# Altium footprint library CornellBajaLibrary.PcbLib: 134 footprints (part 4 of 9)
Each footprint in its own frame and in the unit in brackets; x right, y up, seen from the top. Pads: shape width x height; smd on the part's side, far side on the other; paste and mask are expansions set on the pad; w line width, h text height; cw(c..) or ccw(c..) is an arc to the next point about the centre after c.
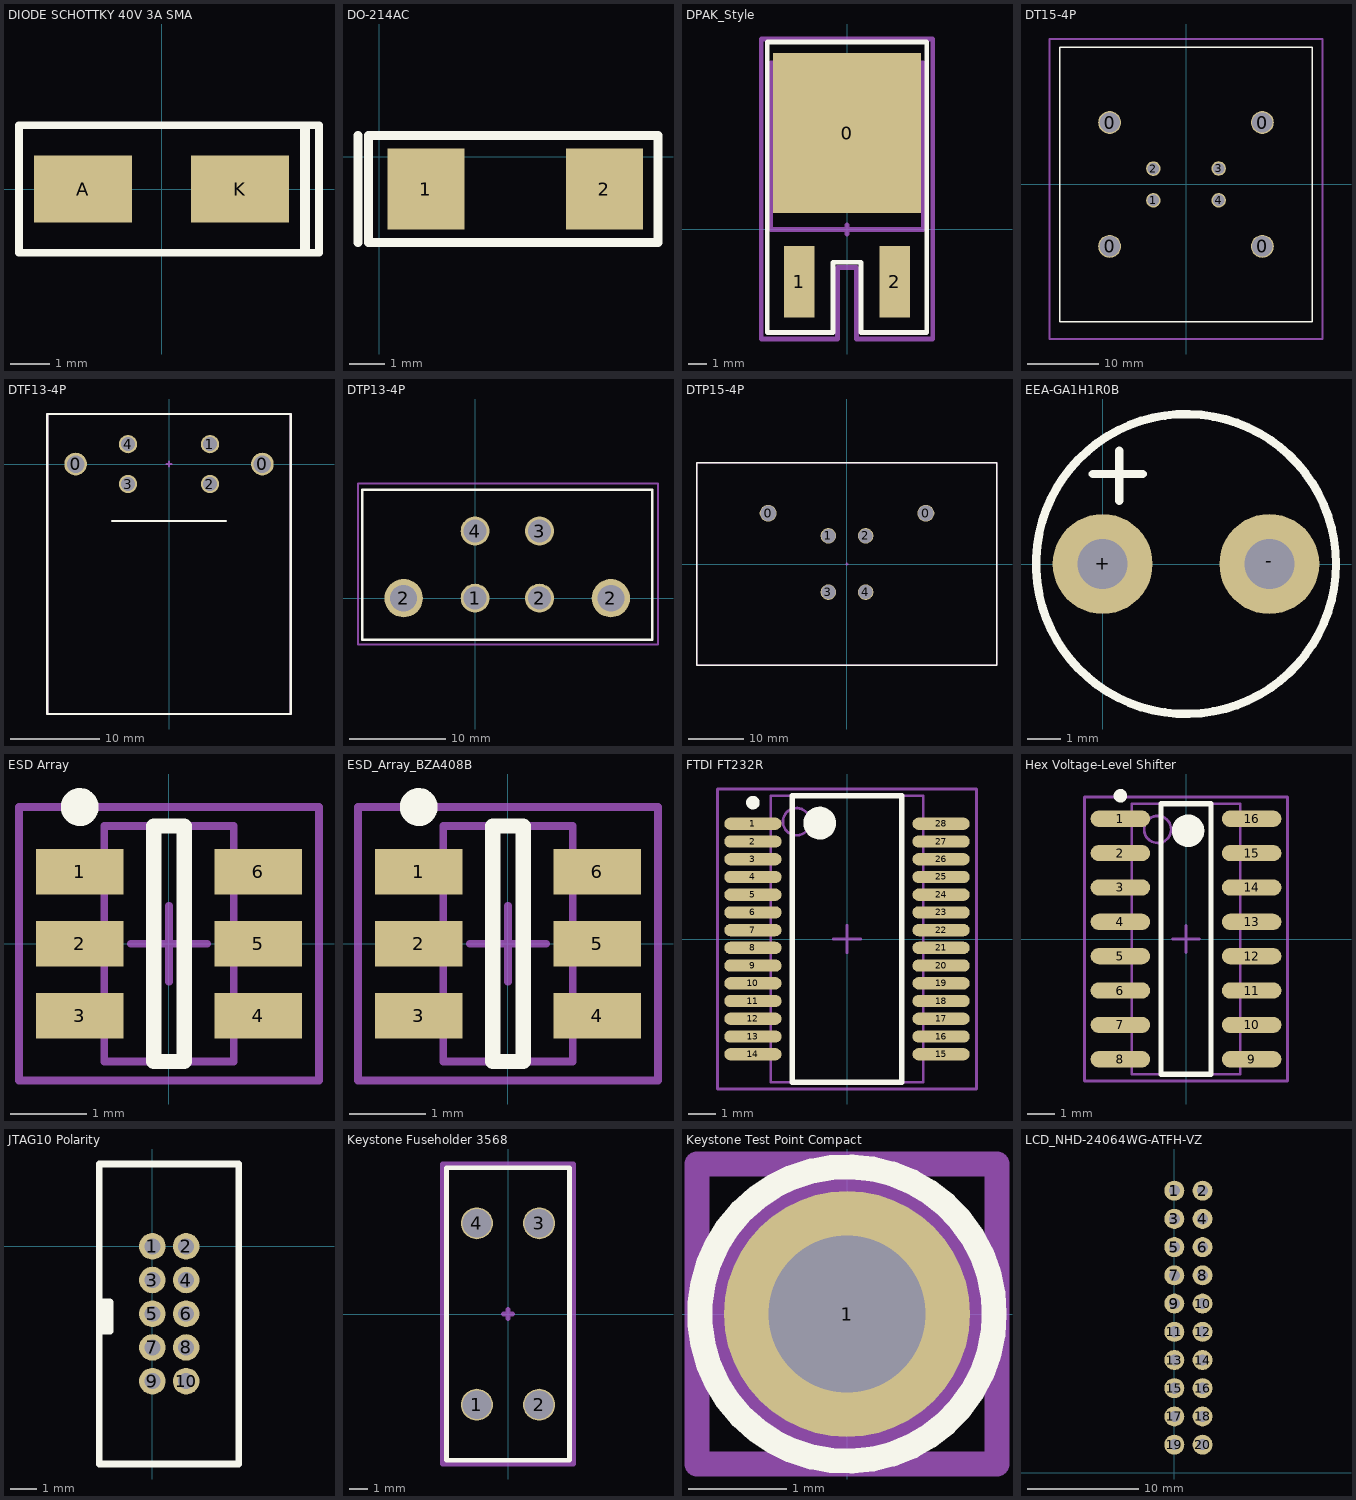
[diagram p3: the footprints below, top view; thin cyan lines are the x and y axes]

## DIODE SCHOTTKY 40V 3A SMA [mm] "DIODE SCHOTTKY 40V 3A SMA"
height 3
pads (2):
  rect 2.5x1.7 smd: A(-2,0) K(2,0)
Top Overlay:
  lines w0.2: -3.632,-1.626 4.013,-1.626 4.013,1.626 -3.632,1.626 -3.632,-1.626
  lines w0.25: 3.658,-1.499 3.658,1.575

## DO-214AC [mm]
pads (2):
  rect 2.16x2.26 smd: 1(1.3,-0.9) 2(6.3,-0.9)
Top Overlay:
  lines w0.25: -0.6,-2.4 -0.6,0.6 ; -0.3,-2.4 -0.3,0.6 7.8,0.6 7.8,-2.4 5.475,-2.4 1.825,-2.4 -0.3,-2.4

## DPAK_Style [mm]
height 2.79
pads (3):
  rect 7.87x8.51 smd: 0(0,5.145)
  rect 1.62x3.81 smd: 1(-2.54,-2.795) 2(2.54,-2.795)
Top Overlay:
  lines w0.254: -4.25,-5.5 -4.25,9.5 -4.25,10 4.25,10 4.25,9.5 4.25,-5.5 0.75,-5.5 0.75,-1.75 0,-1.75 -0.75,-1.75 -0.75,-5.5 -4.25,-5.5
Mechanical 13:
  lines w0.254: -4.064,0 -4.064,8.89 4.064,8.89 4.064,0 0,0 -4.064,0
Mechanical 15:
  lines w0.254: -0.254,0 0.254,0 ; 0,-0.254 0,0.254 ; -4.572,-5.842 -4.572,10.16 4.572,10.16 4.572,-5.842 0.508,-5.842 0.508,-2.032 0,-2.032 -0.508,-2.032 -0.508,-5.842 -4.572,-5.842
3D body: height 2.79, standoff 0, extent -4.063,0.001 4.063,8.889

## DT15-4P [mm]
pads (8):
  round 3.2 hole 2.85: 0(-10.67,-8.65) 0(-10.67,8.65) 0(10.67,-8.65) 0(10.67,8.65)
  round 2.032 hole 1.6: 1(-4.56,-2.23) 2(-4.56,2.22) 3(4.56,2.23) 4(4.56,-2.22)
Top Overlay:
  lines w0.254: -17.625,-19.175 -17.625,19.175 17.625,19.175 17.625,-19.175 -17.625,-19.175
Mechanical 15:
  lines w0.254: -19.05,-21.59 19.05,-21.59 19.05,20.32 -19.05,20.32 -19.05,-21.59
3D body: height 30.35, standoff -3.1, extent -17.628,-20.701 17.628,17.653

## DTF13-4P [mil]
pads (6):
  round 100 hole 77: 0(-410,0) 0(410,0)
  round 80 hole 62: 1(180,87.5) 2(180,-87.5) 3(-180,-87.5) 4(-180,87.5)
Top Overlay:
  lines w10: -250,-250 250,-250 ; -535,-1097.5 535,-1097.5 535,220 -535,220 -535,-1097.5
Mechanical 15:
  lines w10: -10,0 10,0 ; 0,-10 0,10 ; -535,-1097.5 -535,220 535,220 535,-1097.5 -535,-1097.5
3D body: height 921.5, standoff -124.5, extent -535,-1097.5 535,220

## DTP13-4P [mm]
pads (6):
  round 3 hole 2.39: 1(0,0) 2(6.71,0) 3(6.71,6.99) 4(0,6.99)
  round 4 hole 2.79: 2(-7.44,0) 2(14.15,0)
Top Overlay:
  lines w0.254: -11.76,-4.32 -11.76,11.31 18.47,11.31 18.47,-4.32 -11.76,-4.32
Mechanical 15:
  lines w0.254: -12.192,-4.826 19.05,-4.826 19.05,11.938 -12.192,11.938 -12.192,-4.826
3D body: height 40.35, standoff 3.85, extent -11.76,-4.32 18.47,11.31

## DTP15-4P [mil]
pads (6):
  round 120 hole 110: 0(-560,360) 0(560,360)
  round 110 hole 100: 1(-132,200) 2(132,200) 3(-132,-200) 4(132,-200)
Top Overlay:
  lines w10: -1065,-718.5 1065,-718.5 1065,718.5 -1065,718.5 -1065,-718.5
Mechanical 15:
  lines w10: -1060,-718.5 -1065,-718.5 ; -10,0 10,0 ; 0,-10 0,10 ; -1065,-718.5 -1065,718.5 1065,718.5 ; -1065,-718.5 1065,-718.5 1065,718.5 ; 1065,718.51 1065,718.51
3D body: height 1340, standoff -181.92, extent -1064.99,-718.5 1065,718.51

## EEA-GA1H1R0B [mm] "1uF Electrolytic Through Hole"
height 7
pads (2):
  round 3 hole 1.5: +(0,0) -(5,0)
Top Overlay:
  circle w0.254: c2.5,0 r4.5
  lines w0.254: -0.3,2.7 1.2,2.7 ; 0.5,1.9 0.5,3.4

## ESD Array [mm] "BZA408B"
height 1.1
pads (6):
  rect 1.15x0.6 smd: 1(-1.175,0.95) 2(-1.175,0) 3(-1.175,-0.95) 4(1.175,-0.95) 5(1.175,0) 6(1.175,0.95)
Top Overlay:
  circle w0.25: c-1.175,1.8 r0.125
  lines w0.2: -0.2,-1.55 0.2,-1.55 0.2,1.55 -0.2,1.55 -0.2,-1.55
Mechanical 13:
  lines w0.1: -0.85,-1.55 -0.85,1.55 0.85,1.55 0.85,-1.55 -0.85,-1.55
Mechanical 15:
  lines w0.1: -0.5,0 0.5,0 ; 0,-0.5 0,0.5 ; -1.975,-1.8 -1.975,1.8 1.975,1.8 1.975,-1.8 -1.975,-1.8
3D body: height 1.1, standoff 0.01, extent -0.85,-1.55 0.85,1.55

## ESD_Array_BZA408B [mm] "SOT23, 6-Leads, Body 3.1x3.0mm (max), Pitch 0.95mm, IPC Medium Density"
height 1.1
pads (6):
  rect 1.15x0.6 smd: 1(-1.175,0.95) 2(-1.175,0) 3(-1.175,-0.95) 4(1.175,-0.95) 5(1.175,0) 6(1.175,0.95)
Top Overlay:
  circle w0.25: c-1.175,1.8 r0.125
  lines w0.2: -0.2,-1.55 0.2,-1.55 0.2,1.55 -0.2,1.55 -0.2,-1.55
Mechanical 13:
  lines w0.1: -0.85,-1.55 -0.85,1.55 0.85,1.55 0.85,-1.55 -0.85,-1.55
Mechanical 15:
  lines w0.1: -0.5,0 0.5,0 ; 0,-0.5 0,0.5 ; -1.975,-1.8 -1.975,1.8 1.975,1.8 1.975,-1.8 -1.975,-1.8
3D body: height 1.1, standoff 0.01, extent -0.85,-1.55 0.85,1.55

## FTDI FT232R [mm] "SOP, 28-Leads, Body 10.5x5.6mm (max), Pitch 0.65mm, IPC Medium Density"
height 2
pads (28):
  oval 2.1x0.45 smd: 1(-3.45,4.225) 2(-3.45,3.575) 3(-3.45,2.925) 4(-3.45,2.275) 5(-3.45,1.625) 6(-3.45,0.975) 7(-3.45,0.325) 8(-3.45,-0.325) 9(-3.45,-0.975) 10(-3.45,-1.625) 11(-3.45,-2.275) 12(-3.45,-2.925) 13(-3.45,-3.575) 14(-3.45,-4.225) 15(3.45,-4.225) 16(3.45,-3.575) 17(3.45,-2.925) 18(3.45,-2.275) 19(3.45,-1.625) 20(3.45,-0.975) 21(3.45,-0.325) 22(3.45,0.325) 23(3.45,0.975) 24(3.45,1.625) 25(3.45,2.275) 26(3.45,2.925) 27(3.45,3.575) 28(3.45,4.225)
Top Overlay:
  circle w0.25: c-3.45,5 r0.125
  circle w0.6: c-1,4.25 r0.3
  lines w0.2: -2,-5.25 -2,5.25 2,5.25 2,-5.25 -2,-5.25
Mechanical 13:
  circle w0.1: c-1.85,4.3 r0.5
  lines w0.1: -2.8,-5.25 -2.8,5.25 2.8,5.25 2.8,-5.25 -2.8,-5.25
Mechanical 15:
  lines w0.1: -0.5,0 0.5,0 ; 0,-0.5 0,0.5 ; -4.75,-5.5 -4.75,5.5 4.75,5.5 4.75,-5.5 -4.75,-5.5
3D body: height 2, standoff 0.05, extent -2.8,-5.25 2.8,5.25

## Hex Voltage-Level Shifter [mm] "CD4504B"
height 1.75
pads (16):
  oval 2.2x0.6 smd: 1(-2.425,4.445) 2(-2.425,3.175) 3(-2.425,1.905) 4(-2.425,0.635) 5(-2.425,-0.635) 6(-2.425,-1.905) 7(-2.425,-3.175) 8(-2.425,-4.445) 9(2.425,-4.445) 10(2.425,-3.175) 11(2.425,-1.905) 12(2.425,-0.635) 13(2.425,0.635) 14(2.425,1.905) 15(2.425,3.175) 16(2.425,4.445)
Top Overlay:
  circle w0.6: c0.075,4 r0.3
  circle w0.25: c-2.425,5.295 r0.125
  lines w0.2: -0.925,-5 0.925,-5 0.925,5 -0.925,5 -0.925,-5
Mechanical 13:
  circle w0.1: c-1.05,4.05 r0.5
  lines w0.1: -2,-5 2,-5 2,5 -2,5 -2,-5
Mechanical 15:
  lines w0.1: -0.5,0 0.5,0 ; 0,-0.5 0,0.5 ; -3.75,-5.25 3.75,-5.25 3.75,5.25 -3.75,5.25 -3.75,-5.25
3D body: height 1.75, standoff 0.1, extent -2,-5 2,5

## JTAG10 Polarity [mm] "3220-10-0100-00"
height 5.4
pads (10):
  round 1 hole 0.6: 1(0,0) 2(1.27,0) 3(0,-1.27) 4(1.27,-1.27) 5(0,-2.54) 6(1.27,-2.54) 7(0,-3.81) 8(1.27,-3.81) 9(0,-5.08) 10(1.27,-5.08)
Top Overlay:
  lines w0.254: -1.8,-2.2 -1.8,-3.2 -2,-3.2 ; -2,-3.2 -2,-2.1 -1.6,-2.1 -1.6,-3.2 -2,-3.2 ; -2,-8.2 -2,3.1 3.25,3.1 3.25,-8.2 -2,-8.2
3D body: height 5.4, standoff 0.5, extent -2,-8.2 3.25,3.1

## Keystone Fuseholder 3568 [mm]
height 16
pads (4):
  round 1.75 hole 1.57: 1(-1.7,-4.96) 2(1.7,-4.96) 3(1.7,4.96) 4(-1.7,4.96)
Top Overlay:
  lines w0.254: 3.365,-7.874 3.365,-8 ; 3.365,-8 3.365,8 ; 3.365,-8 3.365,8 ; 3.365,-8 -3.365,-8 -3.365,8 3.365,8
Mechanical 13:
  lines w0.254: 3.365,-7.874 3.365,-8 ; 3.365,-8 -3.365,-8 -3.365,8 3.365,8 ; 3.365,-8 3.365,8 ; 3.365,-8 3.365,8
Mechanical 15:
  lines w0.254: -0.254,0 0.254,0 ; 0,-0.254 0,0.254 ; -3.6,-8.2 3.6,-8.2 ; -3.6,-8.2 -3.6,8.2 3.6,8.2 3.6,-8.2 ; -3.6,-8.2 3.6,-8.2
3D body: height 16, standoff 0, extent -3.364,-7.999 3.364,7.999

## Keystone Test Point Compact [mm]
height 5.6
pads (1):
  round 2.5 hole 1.6: 1(0,0)
Top Overlay:
  circle w0.254: c0,0 r1.496
Mechanical 13:
  circle w0.254: c0,0 r1.298
Mechanical 15:
  lines w0.254: -0.254,0 0.254,0 ; 0,-0.254 0,0.254 ; -1.524,-1.524 1.524,-1.524 1.524,1.524 -1.524,1.524 -1.524,-1.524
3D body: height 5.6, standoff 0, extent -1.308,-1.308 1.308,1.308

## LCD_NHD-24064WG-ATFH-VZ [mm]
pads (20):
  round 1.8 hole 1: 1(0,25.4) 2(2.54,25.4) 3(0,22.86) 4(2.54,22.86) 5(0,20.32) 6(2.54,20.32) 7(0,17.78) 8(2.54,17.78) 9(0,15.24) 10(2.54,15.24) 11(0,12.7) 12(2.54,12.7) 13(0,10.16) 14(2.54,10.16) 15(0,7.62) 16(2.54,7.62) 17(0,5.08) 18(2.54,5.08) 19(0,2.54) 20(2.54,2.54)
Multi-Layer:
  lines w0.254: -2.9,0.8 6.2,0.8 6.2,27.8 -4.1,27.8 -4.1,0.8 -2.5,0.8